# Altium footprint library con-amp-te.PCBLIB: 7 footprints
Each footprint in its own frame and in the unit in brackets; x right, y up, seen from the top. Pads: shape width x height; smd on the part's side, far side on the other; paste and mask are expansions set on the pad; w line width, h text height; cw(c..) or ccw(c..) is an arc to the next point about the centre after c.
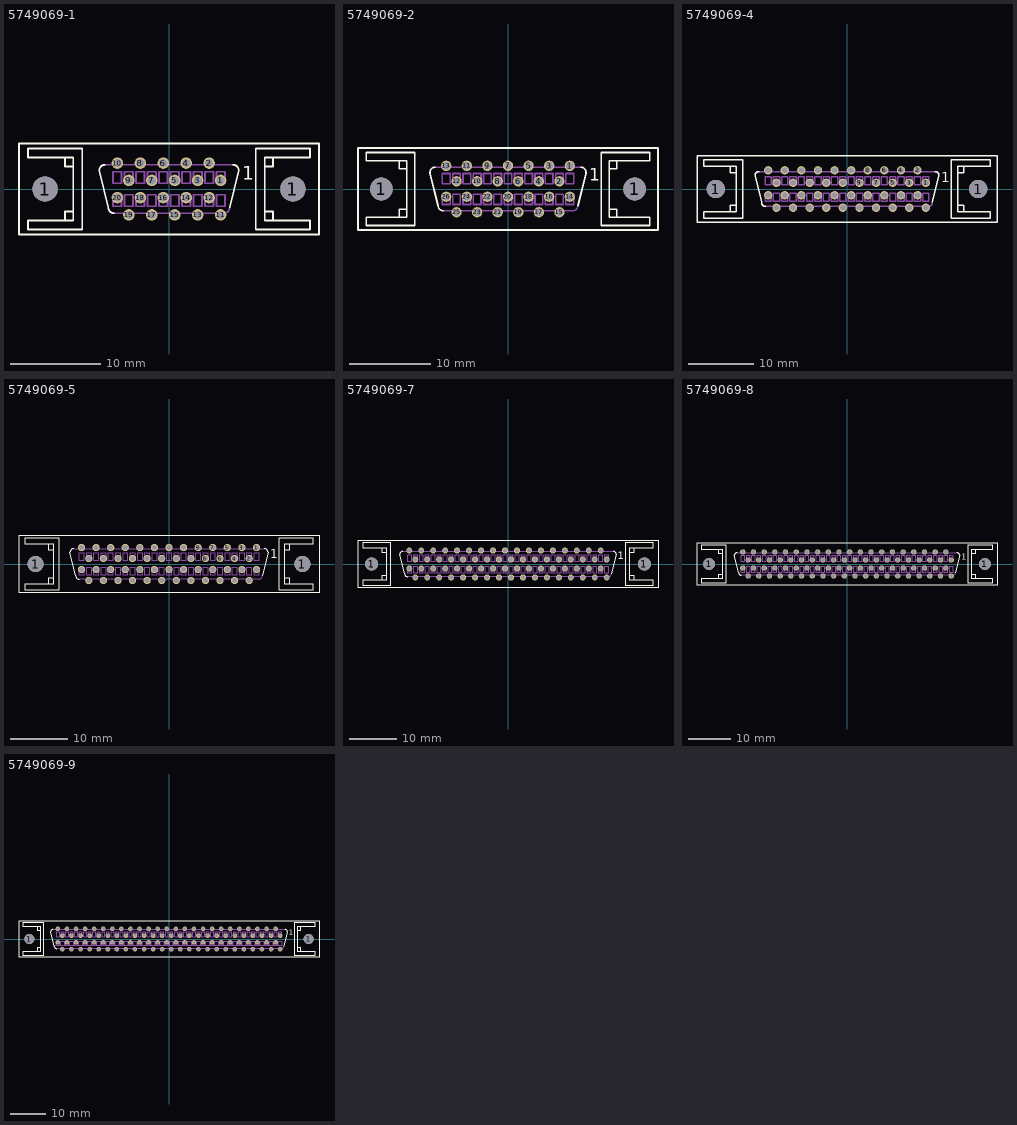
[diagram p0: the footprints below, top view; thin cyan lines are the x and y axes]

## 5749069-1 [mm]
pads (22):
  round 2.8 hole 2.8: 1(-13.715,0) 1(13.715,0)
  round 1.27 hole 0.9: 1(5.715,0.953) 2(4.445,2.863) 3(3.175,0.953) 4(1.905,2.863) 5(0.635,0.953) 6(-0.635,2.863) 7(-1.905,0.953) 8(-3.175,2.863) 9(-4.445,0.953) 10(-5.715,2.863) 11(5.715,-2.867) 12(4.445,-0.957) 13(3.175,-2.867) 14(1.905,-0.957) 15(0.635,-2.867) 16(-0.635,-0.957) 17(-1.905,-2.867) 18(-3.175,-0.957) 19(-4.445,-2.867) 20(-5.715,-0.957)
Top Overlay:
  lines w0.203: -7.09,2.675 ccw(c-7.09,2.04) -7.725,2.04 -6.725,-2.04 ccw(c-6.09,-2.04) -6.09,-2.675 ; 6.725,-2.04 7.725,2.04 ccw(c7.09,2.04) 7.09,2.675 ; -11.525,-3.5 -10.6,-3.5 -10.6,-2.5 ; -11.525,-3.5 -15.6,-3.5 -15.6,-4.5 -9.6,-4.5 -9.6,4.5 -15.6,4.5 -15.6,3.5 -11.525,3.5 ; -11.525,-3.5 -11.525,-2.5 -10.6,-2.5 ; -11.525,3.5 -10.6,3.5 -10.6,2.5 ; -11.525,3.5 -11.525,2.5 -10.6,2.5 ; -10.6,-2.5 -10.6,2.5 ; 10.6,-2.5 10.6,-3.5 11.525,-3.5 ; 10.6,-2.5 10.6,2.5 ; 10.6,-2.5 11.525,-2.5 11.525,-3.5 ; 10.6,2.5 10.6,3.5 11.525,3.5 ; 10.6,2.5 11.525,2.5 11.525,3.5 ; 11.525,-3.5 15.6,-3.5 15.6,-4.5 9.6,-4.5 9.6,4.5 15.6,4.5 15.6,3.5 11.525,3.5 ; -16.6,-5.05 16.6,-5.05 16.6,5.05 -16.6,5.05 -16.6,-5.05
  text "1" at 8.1,1 h1.51
Mechanical 16:
  lines w0.203: -7.09,2.675 7.09,2.675 ; -6.09,-2.675 6.09,-2.675 ccw(c6.09,-2.04) 6.725,-2.04 ; -6.191,-1.905 -6.191,-0.635 -5.239,-0.635 -5.239,-1.905 -6.191,-1.905 ; -6.191,0.635 -6.191,1.905 -5.239,1.905 -5.239,0.635 -6.191,0.635 ; -4.921,-1.905 -4.921,-0.635 -3.969,-0.635 -3.969,-1.905 -4.921,-1.905 ; -4.921,0.635 -4.921,1.905 -3.969,1.905 -3.969,0.635 -4.921,0.635 ; -3.651,-1.905 -3.651,-0.635 -2.699,-0.635 -2.699,-1.905 -3.651,-1.905 ; -3.651,0.635 -3.651,1.905 -2.699,1.905 -2.699,0.635 -3.651,0.635 ; -2.381,-1.905 -2.381,-0.635 -1.429,-0.635 -1.429,-1.905 -2.381,-1.905 ; -2.381,0.635 -2.381,1.905 -1.429,1.905 -1.429,0.635 -2.381,0.635 ; -1.111,-1.905 -1.111,-0.635 -0.159,-0.635 -0.159,-1.905 -1.111,-1.905 ; -1.111,0.635 -1.111,1.905 -0.159,1.905 -0.159,0.635 -1.111,0.635 ; 0.159,-1.905 0.159,-0.635 1.111,-0.635 1.111,-1.905 0.159,-1.905 ; 0.159,0.635 0.159,1.905 1.111,1.905 1.111,0.635 0.159,0.635 ; 1.429,-1.905 1.429,-0.635 2.381,-0.635 2.381,-1.905 1.429,-1.905 ; 1.429,0.635 1.429,1.905 2.381,1.905 2.381,0.635 1.429,0.635 ; 2.699,-1.905 2.699,-0.635 3.651,-0.635 3.651,-1.905 2.699,-1.905 ; 2.699,0.635 2.699,1.905 3.651,1.905 3.651,0.635 2.699,0.635 ; 3.969,-1.905 3.969,-0.635 4.921,-0.635 4.921,-1.905 3.969,-1.905 ; 3.969,0.635 3.969,1.905 4.921,1.905 4.921,0.635 3.969,0.635 ; 5.239,-1.905 5.239,-0.635 6.191,-0.635 6.191,-1.905 5.239,-1.905 ; 5.239,0.635 5.239,1.905 6.191,1.905 6.191,0.635 5.239,0.635

## 5749069-2 [mil]
pads (28):
  round 110.24 hole 110.24: 1(-615.75,0) 1(614.17,0)
  round 50 hole 35.43: 1(299.21,112.72) 2(249.21,37.52) 3(199.21,112.72) 4(149.21,37.52) 5(99.21,112.72) 6(49.21,37.52) 7(-0.79,112.72) 8(-50.79,37.52) 9(-100.79,112.72) 10(-150.79,37.52) 11(-200.79,112.72) 12(-250.79,37.52) 13(-300.79,112.72) 14(299.21,-37.68) 15(249.21,-112.87) 16(199.21,-37.68) 17(149.21,-112.87) 18(99.21,-37.68) 19(49.21,-112.87) 20(-0.79,-37.68) 21(-50.79,-112.87) 22(-100.79,-37.68) 23(-150.79,-112.87) 24(-200.79,-37.68) 25(-250.79,-112.87) 26(-300.79,-37.68)
Top Overlay:
  lines w8: -354.92,105.32 ccw(c-354.92,80.32) -379.92,80.32 -340.55,-80.32 ccw(c-315.55,-80.32) -315.55,-105.32 ; 338.98,-80.32 378.35,80.32 ccw(c353.35,80.32) 353.35,105.32 ; -529.53,-137.8 -493.11,-137.8 -493.11,-98.43 ; -529.53,-137.8 -689.96,-137.8 -689.96,-177.17 -453.74,-177.17 -453.74,177.17 -689.96,177.17 -689.96,137.8 -529.53,137.8 ; -529.53,-137.8 -529.53,-98.43 -493.11,-98.43 ; -529.53,137.8 -493.11,137.8 -493.11,98.43 ; -529.53,137.8 -529.53,98.43 -493.11,98.43 ; -493.11,-98.43 -493.11,98.43 ; 491.54,-98.43 491.54,-137.8 527.95,-137.8 ; 491.54,-98.43 491.54,98.43 ; 491.54,-98.43 527.95,-98.43 527.95,-137.8 ; 491.54,98.43 491.54,137.8 527.95,137.8 ; 491.54,98.43 527.95,98.43 527.95,137.8 ; 527.95,-137.8 688.39,-137.8 688.39,-177.17 452.17,-177.17 452.17,177.17 688.39,177.17 688.39,137.8 527.95,137.8 ; -729.33,-198.82 727.76,-198.82 727.76,198.82 -729.33,198.82 -729.33,-198.82
  text "1" at 393.11,39.37 h59.5
Mechanical 16:
  lines w8: -354.92,105.32 353.35,105.32 ; -315.55,-105.32 313.98,-105.32 ccw(c313.98,-80.32) 338.98,-80.32 ; -319.54,-75 -319.54,-25 -282.04,-25 -282.04,-75 -319.54,-75 ; -319.54,25 -319.54,75 -282.04,75 -282.04,25 -319.54,25 ; -269.54,-75 -269.54,-25 -232.04,-25 -232.04,-75 -269.54,-75 ; -269.54,25 -269.54,75 -232.04,75 -232.04,25 -269.54,25 ; -219.54,-75 -219.54,-25 -182.04,-25 -182.04,-75 -219.54,-75 ; -219.54,25 -219.54,75 -182.04,75 -182.04,25 -219.54,25 ; -169.54,-75 -169.54,-25 -132.04,-25 -132.04,-75 -169.54,-75 ; -169.54,25 -169.54,75 -132.04,75 -132.04,25 -169.54,25 ; -119.54,-75 -119.54,-25 -82.04,-25 -82.04,-75 -119.54,-75 ; -119.54,25 -119.54,75 -82.04,75 -82.04,25 -119.54,25 ; -69.54,-75 -69.54,-25 -32.04,-25 -32.04,-75 -69.54,-75 ; -69.54,25 -69.54,75 -32.04,75 -32.04,25 -69.54,25 ; -19.54,-75 -19.54,-25 17.96,-25 17.96,-75 -19.54,-75 ; -19.54,25 -19.54,75 17.96,75 17.96,25 -19.54,25 ; 30.46,-75 30.46,-25 67.96,-25 67.96,-75 30.46,-75 ; 30.46,25 30.46,75 67.96,75 67.96,25 30.46,25 ; 80.46,-75 80.46,-25 117.96,-25 117.96,-75 80.46,-75 ; 80.46,25 80.46,75 117.96,75 117.96,25 80.46,25 ; 130.46,-75 130.46,-25 167.96,-25 167.96,-75 130.46,-75 ; 130.46,25 130.46,75 167.96,75 167.96,25 130.46,25 ; 180.46,-75 180.46,-25 217.96,-25 217.96,-75 180.46,-75 ; 180.46,25 180.46,75 217.96,75 217.96,25 180.46,25 ; 230.46,-75 230.46,-25 267.96,-25 267.96,-75 230.46,-75 ; 230.46,25 230.46,75 267.96,75 267.96,25 230.46,25 ; 280.46,-75 280.46,-25 317.96,-25 317.96,-75 280.46,-75 ; 280.46,25 280.46,75 317.96,75 317.96,25 280.46,25

## 5749069-4 [mm]
pads (42):
  round 2.8 hole 2.8: 1(-20.065,0) 1(20.065,0)
  round 1.27 hole 0.9: 1(12.065,0.953) 2(10.795,2.863) 3(9.525,0.953) 4(8.255,2.863) 5(6.985,0.953) 6(5.715,2.863) 7(4.445,0.953) 8(3.175,2.863) 9(1.905,0.953) 10(0.635,2.863) 11(-0.635,0.953) 12(-1.905,2.863) 13(-3.175,0.953) 14(-4.445,2.863) 15(-5.715,0.953) 16(-6.985,2.863) 17(-8.255,0.953) 18(-9.525,2.863) 19(-10.795,0.953) 20(-12.065,2.863) 21(12.065,-2.867) 22(10.795,-0.957) 23(9.525,-2.867) 24(8.255,-0.957) 25(6.985,-2.867) 26(5.715,-0.957) 27(4.445,-2.867) 28(3.175,-0.957) 29(1.905,-2.867) 30(0.635,-0.957) 31(-0.635,-2.867) 32(-1.905,-0.957) 33(-3.175,-2.867) 34(-4.445,-0.957) 35(-5.715,-2.867) 36(-6.985,-0.957) 37(-8.255,-2.867) 38(-9.525,-0.957) 39(-10.795,-2.867) 40(-12.065,-0.957)
Top Overlay:
  lines w0.203: -13.44,2.675 ccw(c-13.44,2.04) -14.075,2.04 -13.075,-2.04 ccw(c-12.44,-2.04) -12.44,-2.675 ; 13.075,-2.04 14.075,2.04 ccw(c13.44,2.04) 13.44,2.675 ; -17.875,-3.5 -16.95,-3.5 -16.95,-2.5 ; -17.875,-3.5 -21.95,-3.5 -21.95,-4.5 -15.95,-4.5 -15.95,4.5 -21.95,4.5 -21.95,3.5 -17.875,3.5 ; -17.875,-3.5 -17.875,-2.5 -16.95,-2.5 ; -17.875,3.5 -16.95,3.5 -16.95,2.5 ; -17.875,3.5 -17.875,2.5 -16.95,2.5 ; -16.95,-2.5 -16.95,2.5 ; 16.95,-2.5 16.95,-3.5 17.875,-3.5 ; 16.95,-2.5 16.95,2.5 ; 16.95,-2.5 17.875,-2.5 17.875,-3.5 ; 16.95,2.5 16.95,3.5 17.875,3.5 ; 16.95,2.5 17.875,2.5 17.875,3.5 ; 17.875,-3.5 21.95,-3.5 21.95,-4.5 15.95,-4.5 15.95,4.5 21.95,4.5 21.95,3.5 17.875,3.5 ; -22.95,-5.05 22.95,-5.05 22.95,5.05 -22.95,5.05 -22.95,-5.05
  text "1" at 14.45,1 h1.51
Mechanical 16:
  drawing of 163 lines, arcs and shapes, not listed

## 5749069-5 [mm]
pads (52):
  round 2.8 hole 2.8: 1(-23.24,0) 1(23.24,0)
  round 1.27 hole 0.9: 1(15.24,2.863) 2(13.97,0.953) 3(12.7,2.863) 4(11.43,0.953) 5(10.16,2.863) 6(8.89,0.953) 7(7.62,2.863) 8(6.35,0.953) 9(5.08,2.863) 10(3.81,0.953) 11(2.54,2.863) 12(1.27,0.953) 13(0,2.863) 14(-1.27,0.953) 15(-2.54,2.863) 16(-3.81,0.953) 17(-5.08,2.863) 18(-6.35,0.953) 19(-7.62,2.863) 20(-8.89,0.953) 21(-10.16,2.863) 22(-11.43,0.953) 23(-12.7,2.863) 24(-13.97,0.953) 25(-15.24,2.863) 26(15.24,-0.957) 27(13.97,-2.867) 28(12.7,-0.957) 29(11.43,-2.867) 30(10.16,-0.957) 31(8.89,-2.867) 32(7.62,-0.957) 33(6.35,-2.867) 34(5.08,-0.957) 35(3.81,-2.867) 36(2.54,-0.957) 37(1.27,-2.867) 38(0,-0.957) 39(-1.27,-2.867) 40(-2.54,-0.957) 41(-3.81,-2.867) 42(-5.08,-0.957) 43(-6.35,-2.867) 44(-7.62,-0.957) 45(-8.89,-2.867) 46(-10.16,-0.957) 47(-11.43,-2.867) 48(-12.7,-0.957) 49(-13.97,-2.867) 50(-15.24,-0.957)
Top Overlay:
  lines w0.203: -16.615,2.675 ccw(c-16.615,2.04) -17.25,2.04 -16.25,-2.04 ccw(c-15.615,-2.04) -15.615,-2.675 ; 16.25,-2.04 17.25,2.04 ccw(c16.615,2.04) 16.615,2.675 ; -21.05,-3.5 -20.125,-3.5 -20.125,-2.5 ; -21.05,-3.5 -25.125,-3.5 -25.125,-4.5 -19.125,-4.5 -19.125,4.5 -25.125,4.5 -25.125,3.5 -21.05,3.5 ; -21.05,-3.5 -21.05,-2.5 -20.125,-2.5 ; -21.05,3.5 -20.125,3.5 -20.125,2.5 ; -21.05,3.5 -21.05,2.5 -20.125,2.5 ; -20.125,-2.5 -20.125,2.5 ; 20.125,-2.5 20.125,-3.5 21.05,-3.5 ; 20.125,-2.5 20.125,2.5 ; 20.125,-2.5 21.05,-2.5 21.05,-3.5 ; 20.125,2.5 20.125,3.5 21.05,3.5 ; 20.125,2.5 21.05,2.5 21.05,3.5 ; 21.05,-3.5 25.125,-3.5 25.125,-4.5 19.125,-4.5 19.125,4.5 25.125,4.5 25.125,3.5 21.05,3.5 ; -26.125,-5.05 26.125,-5.05 26.125,5.05 -26.125,5.05 -26.125,-5.05
  text "1" at 17.625,1 h1.51
Mechanical 16:
  drawing of 203 lines, arcs and shapes, not listed

## 5749069-7 [mm]
pads (70):
  round 2.8 hole 2.8: 1(-28.955,0) 1(28.955,0)
  round 1.27 hole 0.9: 1(20.955,0.953) 2(19.685,2.863) 3(18.415,0.953) 4(17.145,2.863) 5(15.875,0.953) 6(14.605,2.863) 7(13.335,0.953) 8(12.065,2.863) 9(10.795,0.953) 10(9.525,2.863) 11(8.255,0.953) 12(6.985,2.863) 13(5.715,0.953) 14(4.445,2.863) 15(3.175,0.953) 16(1.905,2.863) 17(0.635,0.953) 18(-0.635,2.863) 19(-1.905,0.953) 20(-3.175,2.863) 21(-4.445,0.953) 22(-5.715,2.863) 23(-6.985,0.953) 24(-8.255,2.863) 25(-9.525,0.953) 26(-10.795,2.863) 27(-12.065,0.953) 28(-13.335,2.863) 29(-14.605,0.953) 30(-15.875,2.863) 31(-17.145,0.953) 32(-18.415,2.863) 33(-19.685,0.953) 34(-20.955,2.863) 35(20.955,-2.867) 36(19.685,-0.957) 37(18.415,-2.867) 38(17.145,-0.957) 39(15.875,-2.867) 40(14.605,-0.957) 41(13.335,-2.867) 42(12.065,-0.957) 43(10.795,-2.867) 44(9.525,-0.957) 45(8.255,-2.867) 46(6.985,-0.957) 47(5.715,-2.867) 48(4.445,-0.957) 49(3.175,-2.867) 50(1.905,-0.957) 51(0.635,-2.867) 52(-0.635,-0.957) 53(-1.905,-2.867) 54(-3.175,-0.957) 55(-4.445,-2.867) 56(-5.715,-0.957) 57(-6.985,-2.867) 58(-8.255,-0.957) 59(-9.525,-2.867) 60(-10.795,-0.957) 61(-12.065,-2.867) 62(-13.335,-0.957) 63(-14.605,-2.867) 64(-15.875,-0.957) 65(-17.145,-2.867) 66(-18.415,-0.957) 67(-19.685,-2.867) 68(-20.955,-0.957)
Top Overlay:
  lines w0.203: -22.33,2.675 ccw(c-22.33,2.04) -22.965,2.04 -21.965,-2.04 ccw(c-21.33,-2.04) -21.33,-2.675 ; 21.965,-2.04 22.965,2.04 ccw(c22.33,2.04) 22.33,2.675 ; -26.765,-3.5 -25.84,-3.5 -25.84,-2.5 ; -26.765,-3.5 -30.84,-3.5 -30.84,-4.5 -24.84,-4.5 -24.84,4.5 -30.84,4.5 -30.84,3.5 -26.765,3.5 ; -26.765,-3.5 -26.765,-2.5 -25.84,-2.5 ; -26.765,3.5 -25.84,3.5 -25.84,2.5 ; -26.765,3.5 -26.765,2.5 -25.84,2.5 ; -25.84,-2.5 -25.84,2.5 ; 25.84,-2.5 25.84,-3.5 26.765,-3.5 ; 25.84,-2.5 25.84,2.5 ; 25.84,-2.5 26.765,-2.5 26.765,-3.5 ; 25.84,2.5 25.84,3.5 26.765,3.5 ; 25.84,2.5 26.765,2.5 26.765,3.5 ; 26.765,-3.5 30.84,-3.5 30.84,-4.5 24.84,-4.5 24.84,4.5 30.84,4.5 30.84,3.5 26.765,3.5 ; -31.84,-5.05 31.84,-5.05 31.84,5.05 -31.84,5.05 -31.84,-5.05
  text "1" at 23.34,1 h1.51
Mechanical 16:
  drawing of 275 lines, arcs and shapes, not listed

## 5749069-8 [mm]
pads (82):
  round 2.8 hole 2.8: 1(-32.765,0) 1(32.765,0)
  round 1.27 hole 0.9: 1(24.765,0.953) 2(23.495,2.863) 3(22.225,0.953) 4(20.955,2.863) 5(19.685,0.953) 6(18.415,2.863) 7(17.145,0.953) 8(15.875,2.863) 9(14.605,0.953) 10(13.335,2.863) 11(12.065,0.953) 12(10.795,2.863) 13(9.525,0.953) 14(8.255,2.863) 15(6.985,0.953) 16(5.715,2.863) 17(4.445,0.953) 18(3.175,2.863) 19(1.905,0.953) 20(0.635,2.863) 21(-0.635,0.953) 22(-1.905,2.863) 23(-3.175,0.953) 24(-4.445,2.863) 25(-5.715,0.953) 26(-6.985,2.863) 27(-8.255,0.953) 28(-9.525,2.863) 29(-10.795,0.953) 30(-12.065,2.863) 31(-13.335,0.953) 32(-14.605,2.863) 33(-15.875,0.953) 34(-17.145,2.863) 35(-18.415,0.953) 36(-19.685,2.863) 37(-20.955,0.953) 38(-22.225,2.863) 39(-23.495,0.953) 40(-24.765,2.863) 41(24.765,-2.867) 42(23.495,-0.957) 43(22.225,-2.867) 44(20.955,-0.957) 45(19.685,-2.867) 46(18.415,-0.957) 47(17.145,-2.867) 48(15.875,-0.957) 49(14.605,-2.867) 50(13.335,-0.957) 51(12.065,-2.867) 52(10.795,-0.957) 53(9.525,-2.867) 54(8.255,-0.957) 55(6.985,-2.867) 56(5.715,-0.957) 57(4.445,-2.867) 58(3.175,-0.957) 59(1.905,-2.867) 60(0.635,-0.957) 61(-0.635,-2.867) 62(-1.905,-0.957) 63(-3.175,-2.867) 64(-4.445,-0.957) 65(-5.715,-2.867) 66(-6.985,-0.957) 67(-8.255,-2.867) 68(-9.525,-0.957) 69(-10.795,-2.867) 70(-12.065,-0.957) 71(-13.335,-2.867) 72(-14.605,-0.957) 73(-15.875,-2.867) 74(-17.145,-0.957) 75(-18.415,-2.867) 76(-19.685,-0.957) 77(-20.955,-2.867) 78(-22.225,-0.957) 79(-23.495,-2.867) 80(-24.765,-0.957)
Top Overlay:
  lines w0.203: -26.14,2.675 ccw(c-26.14,2.04) -26.775,2.04 -25.775,-2.04 ccw(c-25.14,-2.04) -25.14,-2.675 ; 25.775,-2.04 26.775,2.04 ccw(c26.14,2.04) 26.14,2.675 ; -30.575,-3.5 -29.65,-3.5 -29.65,-2.5 ; -30.575,-3.5 -34.65,-3.5 -34.65,-4.5 -28.65,-4.5 -28.65,4.5 -34.65,4.5 -34.65,3.5 -30.575,3.5 ; -30.575,-3.5 -30.575,-2.5 -29.65,-2.5 ; -30.575,3.5 -29.65,3.5 -29.65,2.5 ; -30.575,3.5 -30.575,2.5 -29.65,2.5 ; -29.65,-2.5 -29.65,2.5 ; 29.65,-2.5 29.65,-3.5 30.575,-3.5 ; 29.65,-2.5 29.65,2.5 ; 29.65,-2.5 30.575,-2.5 30.575,-3.5 ; 29.65,2.5 29.65,3.5 30.575,3.5 ; 29.65,2.5 30.575,2.5 30.575,3.5 ; 30.575,-3.5 34.65,-3.5 34.65,-4.5 28.65,-4.5 28.65,4.5 34.65,4.5 34.65,3.5 30.575,3.5 ; -35.65,-5.05 35.65,-5.05 35.65,5.05 -35.65,5.05 -35.65,-5.05
  text "1" at 27.15,1 h1.51
Mechanical 16:
  drawing of 323 lines, arcs and shapes, not listed

## 5749069-9 [mm]
pads (102):
  round 2.8 hole 2.8: 1(-39.115,0) 1(39.115,0)
  round 1.27 hole 0.9: 1(31.115,0.953) 2(29.845,2.863) 3(28.575,0.953) 4(27.305,2.863) 5(26.035,0.953) 6(24.765,2.863) 7(23.495,0.953) 8(22.225,2.863) 9(20.955,0.953) 10(19.685,2.863) 11(18.415,0.953) 12(17.145,2.863) 13(15.875,0.953) 14(14.605,2.863) 15(13.335,0.953) 16(12.065,2.863) 17(10.795,0.953) 18(9.525,2.863) 19(8.255,0.953) 20(6.985,2.863) 21(5.715,0.953) 22(4.445,2.863) 23(3.175,0.953) 24(1.905,2.863) 25(0.635,0.953) 26(-0.635,2.863) 27(-1.905,0.953) 28(-3.175,2.863) 29(-4.445,0.953) 30(-5.715,2.863) 31(-6.985,0.953) 32(-8.255,2.863) 33(-9.525,0.953) 34(-10.795,2.863) 35(-12.065,0.953) 36(-13.335,2.863) 37(-14.605,0.953) 38(-15.875,2.863) 39(-17.145,0.953) 40(-18.415,2.863) 41(-19.685,0.953) 42(-20.955,2.863) 43(-22.225,0.953) 44(-23.495,2.863) 45(-24.765,0.953) 46(-26.035,2.863) 47(-27.305,0.953) 48(-28.575,2.863) 49(-29.845,0.953) 50(-31.115,2.863) 51(31.115,-2.867) 52(29.845,-0.957) 53(28.575,-2.867) 54(27.305,-0.957) 55(26.035,-2.867) 56(24.765,-0.957) 57(23.495,-2.867) 58(22.225,-0.957) 59(20.955,-2.867) 60(19.685,-0.957) 61(18.415,-2.867) 62(17.145,-0.957) 63(15.875,-2.867) 64(14.605,-0.957) 65(13.335,-2.867) 66(12.065,-0.957) 67(10.795,-2.867) 68(9.525,-0.957) 69(8.255,-2.867) 70(6.985,-0.957) 71(5.715,-2.867) 72(4.445,-0.957) 73(3.175,-2.867) 74(1.905,-0.957) 75(0.635,-2.867) 76(-0.635,-0.957) 77(-1.905,-2.867) 78(-3.175,-0.957) 79(-4.445,-2.867) 80(-5.715,-0.957) 81(-6.985,-2.867) 82(-8.255,-0.957) 83(-9.525,-2.867) 84(-10.795,-0.957) 85(-12.065,-2.867) 86(-13.335,-0.957) 87(-14.605,-2.867) 88(-15.875,-0.957) 89(-17.145,-2.867) 90(-18.415,-0.957) 91(-19.685,-2.867) 92(-20.955,-0.957) 93(-22.225,-2.867) 94(-23.495,-0.957) 95(-24.765,-2.867) 96(-26.035,-0.957) 97(-27.305,-2.867) 98(-28.575,-0.957) 99(-29.845,-2.867) 100(-31.115,-0.957)
Top Overlay:
  lines w0.203: -32.49,2.675 ccw(c-32.49,2.04) -33.125,2.04 -32.125,-2.04 ccw(c-31.49,-2.04) -31.49,-2.675 ; 32.125,-2.04 33.125,2.04 ccw(c32.49,2.04) 32.49,2.675 ; -36.925,-3.5 -36,-3.5 -36,-2.5 ; -36.925,-3.5 -41,-3.5 -41,-4.5 -35,-4.5 -35,4.5 -41,4.5 -41,3.5 -36.925,3.5 ; -36.925,-3.5 -36.925,-2.5 -36,-2.5 ; -36.925,3.5 -36,3.5 -36,2.5 ; -36.925,3.5 -36.925,2.5 -36,2.5 ; -36,-2.5 -36,2.5 ; 36,-2.5 36,-3.5 36.925,-3.5 ; 36,-2.5 36,2.5 ; 36,-2.5 36.925,-2.5 36.925,-3.5 ; 36,2.5 36,3.5 36.925,3.5 ; 36,2.5 36.925,2.5 36.925,3.5 ; 36.925,-3.5 41,-3.5 41,-4.5 35,-4.5 35,4.5 41,4.5 41,3.5 36.925,3.5 ; -42,-5.05 42,-5.05 42,5.05 -42,5.05 -42,-5.05
  text "1" at 33.5,1 h1.51
Mechanical 16:
  drawing of 403 lines, arcs and shapes, not listed